# Altium schematic symbol library kmilo17pet-TI_MSP430.SchLib: 1463 symbols (part 123 of 130)
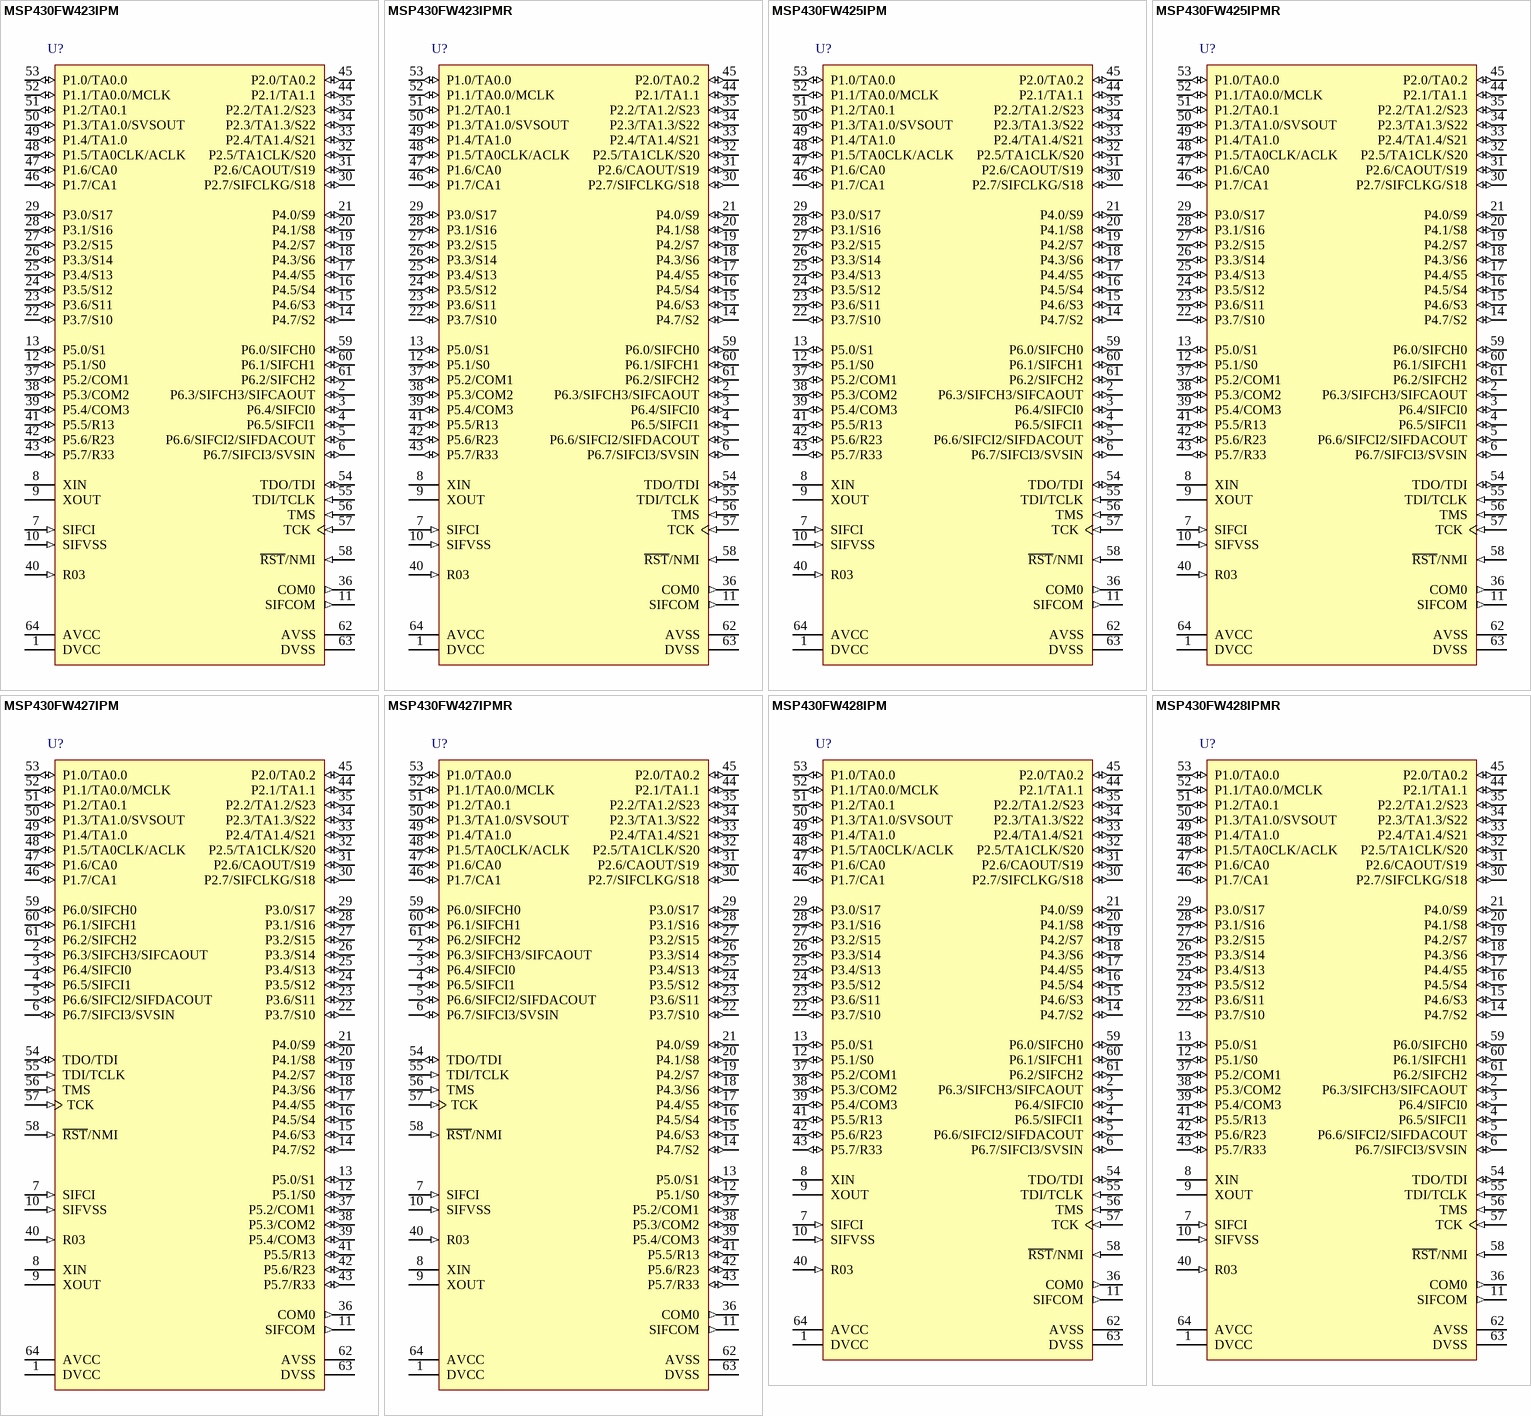
[diagram p297: symbols MSP430FW423IPM to MSP430FW428IPMR]

## MSP430FW427IPM
designator U?
8 MHz Mixed Signal Microcontroller with 32 KB Flash, 1024 B SRAM and 48 GPIOs, -40 to 85 degC, 64-pin QFP (PM), Green (RoHS & no Sb/Br); Manufacturer: Texas Instruments; PartNumber: MSP430FW427IPM; ADC: Slope; Brown Out Reset: Yes; Flash(KB): 32; Frequency(MHz): 8; GPIO: 48; LCD Segments: 96; SRAM(B): 1024; SubFamily: 4 Series with LCD; Timers - 16-bit: 2; DatasheetVersion: SLAS383D; PackageVersion: 4040152/C; PackageReference: PM64; PackageDescription: 64-Pin Plastic Quad Flat Pack, Body 10 x 10 mm, Pitch 0.5 mm; Supplier 1: Digi-Key; Supplier Part Number 1: 296-15858-2-ND; Supplier 2: Digi-Key; Supplier Part Number 2: 296-15858-1-ND; Supplier 3: Digi-Key; Supplier Part Number 3: 296-15858-6-ND; Supplier 4: Newark; Supplier Part Number 4: 87H2029; Supplier 5: Mouser; Supplier Part Number 5: 595-430FW425IPMR; Comparators: Yes; Eco-Plan: Green (RoHS & no Sb/Br); SVS: Yes; Watchdog: Yes; Mounting Technology: Surface Mount; Code_JEDEC: MS-026; ComponentLink1Description: Manufacturer URL; ComponentLink1URL: http://www.ti.com/; ComponentLink2Description: Datasheet; ComponentLink2URL: http://www.ti.com/general/docs/lit/getliterature.tsp?genericPartNumber=MSP430FW427&fileType=pdf; ComponentLink3Description: Package Specification; ComponentLink3URL: http://www.ti.com/lit/ml/mtqf008a/mtqf008a.pdf
footprint TI-PM64_N (QFP, 64-Leads, Body 10x10mm, Pitch 0.5mm, IPC Medium Density)
pins: 1 DVCC (power) "Digital supply voltage, positive terminal.", 2 P6.3/SIFCH3/SIFCAOUT (io), 3 P6.4/SIFCI0 (io), 4 P6.5/SIFCI1 (io), 5 P6.6/SIFCI2/SIFDACOUT (io), 6 P6.7/SIFCI3/SVSIN (io), 7 SIFCI (in) "Scan IF input to Comparator.", 8 XIN "Input port for crystal oscillator XT1. Standard or watch crystals can be connected.", 9 XOUT "Output terminal of crystal oscillator XT1", 10 SIFVSS (in) "Scan IF input to Comparator.", 11 SIFCOM (out) "Common termination for Scan IF sensors.", 12 P5.1/S0 (io), 13 P5.0/S1 (io), 14 P4.7/S2 (io), 15 P4.6/S3 (io), 16 P4.5/S4 (io), 17 P4.4/S5 (io), 18 P4.3/S6 (io), 19 P4.2/S7 (io), 20 P4.1/S8 (io), 21 P4.0/S9 (io), 22 P3.7/S10 (io), 23 P3.6/S11 (io), 24 P3.5/S12 (io), 25 P3.4/S13 (io), 26 P3.3/S14 (io), 27 P3.2/S15 (io), 28 P3.1/S16 (io), 29 P3.0/S17 (io), 30 P2.7/SIFCLKG/S18 (io), 31 P2.6/CAOUT/S19 (io), 32 P2.5/TA1CLK/S20 (io), 33 P2.4/TA1.4/S21 (io), 34 P2.3/TA1.3/S22 (io), 35 P2.2/TA1.2/S23 (io), 36 COM0 (out) "Common output, COM0-3 are used for LCD backplanes.", 37 P5.2/COM1 (io), 38 P5.3/COM2 (io), 39 P5.4/COM3 (io), 40 R03 (in) "Input port of fourth positive (lowest) analog LCD level (V5)", 41 P5.5/R13 (io), 42 P5.6/R23 (io), 43 P5.7/R33 (io), 44 P2.1/TA1.1 (io), 45 P2.0/TA0.2 (io), 46 P1.7/CA1 (io), 47 P1.6/CA0 (io), 48 P1.5/TA0CLK/ACLK (io), 49 P1.4/TA1.0 (io), 50 P1.3/TA1.0/SVSOUT (io), 51 P1.2/TA0.1 (io), 52 P1.1/TA0.0/MCLK (io), 53 P1.0/TA0.0 (io), 54 TDO/TDI (io), 55 TDI/TCLK (in), 56 TMS (in) "Test mode select. TMS is used as an input port for device programming and test.", 57 TCK (in) "Test clock. TCK is the clock input port for device programming and test.", 58 ~{RST}/NMI (in), 59 P6.0/SIFCH0 (io), 60 P6.1/SIFCH1 (io), 61 P6.2/SIFCH2 (io), 62 AVSS (power) "Analog supply voltage, negative terminal. Supplies SD16, SVS, brownout, oscillator, and LCD resistive divider circuitry.", 63 DVSS (power) "Digital supply voltage, negative terminal", 64 AVCC (power) "Analog supply voltage, positive terminal. Supplies SD16, SVS, brownout, oscillator, and LCD resistive divider circuitry; must not power up prior to DVCC."

## MSP430FW427IPMR
designator U?
8 MHz Mixed Signal Microcontroller with 32 KB Flash, 1024 B SRAM and 48 GPIOs, -40 to 85 degC, 64-pin QFP (PM), Green (RoHS & no Sb/Br); Manufacturer: Texas Instruments; PartNumber: MSP430FW427IPMR; ADC: Slope; Brown Out Reset: Yes; Flash(KB): 32; Frequency(MHz): 8; GPIO: 48; LCD Segments: 96; SRAM(B): 1024; SubFamily: 4 Series with LCD; Timers - 16-bit: 2; DatasheetVersion: SLAS383D; PackageVersion: 4040152/C; PackageReference: PM64; PackageDescription: 64-Pin Plastic Quad Flat Pack, Body 10 x 10 mm, Pitch 0.5 mm; Supplier 1: Digi-Key; Supplier Part Number 1: 296-32678-ND; Supplier 2: Farnell; Supplier Part Number 2: 1555282; Supplier 3: Mouser; Supplier Part Number 3: 595-430FW427IPM; Comparators: Yes; Eco-Plan: Green (RoHS & no Sb/Br); SVS: Yes; Watchdog: Yes; Mounting Technology: Surface Mount; Code_JEDEC: MS-026; ComponentLink1Description: Manufacturer URL; ComponentLink1URL: http://www.ti.com/; ComponentLink2Description: Datasheet; ComponentLink2URL: http://www.ti.com/general/docs/lit/getliterature.tsp?genericPartNumber=MSP430FW427&fileType=pdf; ComponentLink3Description: Package Specification; ComponentLink3URL: http://www.ti.com/lit/ml/mtqf008a/mtqf008a.pdf
footprint TI-PM64_N (QFP, 64-Leads, Body 10x10mm, Pitch 0.5mm, IPC Medium Density)
pins: 1 DVCC (power) "Digital supply voltage, positive terminal.", 2 P6.3/SIFCH3/SIFCAOUT (io), 3 P6.4/SIFCI0 (io), 4 P6.5/SIFCI1 (io), 5 P6.6/SIFCI2/SIFDACOUT (io), 6 P6.7/SIFCI3/SVSIN (io), 7 SIFCI (in) "Scan IF input to Comparator.", 8 XIN "Input port for crystal oscillator XT1. Standard or watch crystals can be connected.", 9 XOUT "Output terminal of crystal oscillator XT1", 10 SIFVSS (in) "Scan IF input to Comparator.", 11 SIFCOM (out) "Common termination for Scan IF sensors.", 12 P5.1/S0 (io), 13 P5.0/S1 (io), 14 P4.7/S2 (io), 15 P4.6/S3 (io), 16 P4.5/S4 (io), 17 P4.4/S5 (io), 18 P4.3/S6 (io), 19 P4.2/S7 (io), 20 P4.1/S8 (io), 21 P4.0/S9 (io), 22 P3.7/S10 (io), 23 P3.6/S11 (io), 24 P3.5/S12 (io), 25 P3.4/S13 (io), 26 P3.3/S14 (io), 27 P3.2/S15 (io), 28 P3.1/S16 (io), 29 P3.0/S17 (io), 30 P2.7/SIFCLKG/S18 (io), 31 P2.6/CAOUT/S19 (io), 32 P2.5/TA1CLK/S20 (io), 33 P2.4/TA1.4/S21 (io), 34 P2.3/TA1.3/S22 (io), 35 P2.2/TA1.2/S23 (io), 36 COM0 (out) "Common output, COM0-3 are used for LCD backplanes.", 37 P5.2/COM1 (io), 38 P5.3/COM2 (io), 39 P5.4/COM3 (io), 40 R03 (in) "Input port of fourth positive (lowest) analog LCD level (V5)", 41 P5.5/R13 (io), 42 P5.6/R23 (io), 43 P5.7/R33 (io), 44 P2.1/TA1.1 (io), 45 P2.0/TA0.2 (io), 46 P1.7/CA1 (io), 47 P1.6/CA0 (io), 48 P1.5/TA0CLK/ACLK (io), 49 P1.4/TA1.0 (io), 50 P1.3/TA1.0/SVSOUT (io), 51 P1.2/TA0.1 (io), 52 P1.1/TA0.0/MCLK (io), 53 P1.0/TA0.0 (io), 54 TDO/TDI (io), 55 TDI/TCLK (in), 56 TMS (in) "Test mode select. TMS is used as an input port for device programming and test.", 57 TCK (in) "Test clock. TCK is the clock input port for device programming and test.", 58 ~{RST}/NMI (in), 59 P6.0/SIFCH0 (io), 60 P6.1/SIFCH1 (io), 61 P6.2/SIFCH2 (io), 62 AVSS (power) "Analog supply voltage, negative terminal. Supplies SD16, SVS, brownout, oscillator, and LCD resistive divider circuitry.", 63 DVSS (power) "Digital supply voltage, negative terminal", 64 AVCC (power) "Analog supply voltage, positive terminal. Supplies SD16, SVS, brownout, oscillator, and LCD resistive divider circuitry; must not power up prior to DVCC."

## MSP430FW428IPM
designator U?
8 MHz Mixed Signal Microcontroller with 48 KB Flash, 2048 B SRAM and 48 GPIOs, -40 to 85 degC, 64-pin QFP (PM), Green (RoHS & no Sb/Br); Manufacturer: Texas Instruments; PartNumber: MSP430FW428IPM; ADC: Slope; Brown Out Reset: Yes; Flash(KB): 48; Frequency(MHz): 8; LCD Segments: 96; SRAM(B): 2048; SubFamily: 4 Series with LCD; Timers - 16-bit: 2; DatasheetVersion: SLAS383D; PackageVersion: 4040152/C; PackageReference: PM64; PackageDescription: 64-Pin Plastic Quad Flat Pack, Body 10 x 10 mm, Pitch 0.5 mm; Supplier 1: Digi-Key; Supplier Part Number 1: 296-15859-2-ND; Supplier 2: Digi-Key; Supplier Part Number 2: 296-15859-1-ND; Supplier 3: Digi-Key; Supplier Part Number 3: 296-15859-6-ND; Supplier 4: Newark; Supplier Part Number 4: 87H2031; Supplier 5: Mouser; Supplier Part Number 5: 595-430FW427IPMR; Comparators: Yes; Eco-Plan: Green (RoHS & no Sb/Br); GPIO: 48; SVS: Yes; Watchdog: Yes; Mounting Technology: Surface Mount; Code_JEDEC: MS-026; ComponentLink1Description: Manufacturer URL; ComponentLink1URL: http://www.ti.com/; ComponentLink2Description: Datasheet; ComponentLink2URL: http://www.ti.com/general/docs/lit/getliterature.tsp?genericPartNumber=MSP430FW428&fileType=pdf; ComponentLink3Description: Package Specification; ComponentLink3URL: http://www.ti.com/lit/ml/mtqf008a/mtqf008a.pdf
footprint TI-PM64_N (QFP, 64-Leads, Body 10x10mm, Pitch 0.5mm, IPC Medium Density)
pins: 1 DVCC (power) "Digital supply voltage, positive terminal.", 2 P6.3/SIFCH3/SIFCAOUT (io), 3 P6.4/SIFCI0 (io), 4 P6.5/SIFCI1 (io), 5 P6.6/SIFCI2/SIFDACOUT (io), 6 P6.7/SIFCI3/SVSIN (io), 7 SIFCI (in) "Scan IF input to Comparator.", 8 XIN "Input port for crystal oscillator XT1. Standard or watch crystals can be connected.", 9 XOUT "Output terminal of crystal oscillator XT1", 10 SIFVSS (in) "Scan IF input to Comparator.", 11 SIFCOM (out) "Common termination for Scan IF sensors.", 12 P5.1/S0 (io), 13 P5.0/S1 (io), 14 P4.7/S2 (io), 15 P4.6/S3 (io), 16 P4.5/S4 (io), 17 P4.4/S5 (io), 18 P4.3/S6 (io), 19 P4.2/S7 (io), 20 P4.1/S8 (io), 21 P4.0/S9 (io), 22 P3.7/S10 (io), 23 P3.6/S11 (io), 24 P3.5/S12 (io), 25 P3.4/S13 (io), 26 P3.3/S14 (io), 27 P3.2/S15 (io), 28 P3.1/S16 (io), 29 P3.0/S17 (io), 30 P2.7/SIFCLKG/S18 (io), 31 P2.6/CAOUT/S19 (io), 32 P2.5/TA1CLK/S20 (io), 33 P2.4/TA1.4/S21 (io), 34 P2.3/TA1.3/S22 (io), 35 P2.2/TA1.2/S23 (io), 36 COM0 (out) "Common output, COM0-3 are used for LCD backplanes.", 37 P5.2/COM1 (io), 38 P5.3/COM2 (io), 39 P5.4/COM3 (io), 40 R03 (in) "Input port of fourth positive (lowest) analog LCD level (V5)", 41 P5.5/R13 (io), 42 P5.6/R23 (io), 43 P5.7/R33 (io), 44 P2.1/TA1.1 (io), 45 P2.0/TA0.2 (io), 46 P1.7/CA1 (io), 47 P1.6/CA0 (io), 48 P1.5/TA0CLK/ACLK (io), 49 P1.4/TA1.0 (io), 50 P1.3/TA1.0/SVSOUT (io), 51 P1.2/TA0.1 (io), 52 P1.1/TA0.0/MCLK (io), 53 P1.0/TA0.0 (io), 54 TDO/TDI (io), 55 TDI/TCLK (in), 56 TMS (in) "Test mode select. TMS is used as an input port for device programming and test.", 57 TCK (in) "Test clock. TCK is the clock input port for device programming and test.", 58 ~{RST}/NMI (in), 59 P6.0/SIFCH0 (io), 60 P6.1/SIFCH1 (io), 61 P6.2/SIFCH2 (io), 62 AVSS (power) "Analog supply voltage, negative terminal. Supplies SD16, SVS, brownout, oscillator, and LCD resistive divider circuitry.", 63 DVSS (power) "Digital supply voltage, negative terminal", 64 AVCC (power) "Analog supply voltage, positive terminal. Supplies SD16, SVS, brownout, oscillator, and LCD resistive divider circuitry; must not power up prior to DVCC."

## MSP430FW428IPMR
designator U?
8 MHz Mixed Signal Microcontroller with 48 KB Flash, 2048 B SRAM and 48 GPIOs, -40 to 85 degC, 64-pin QFP (PM), Green (RoHS & no Sb/Br); Manufacturer: Texas Instruments; PartNumber: MSP430FW428IPMR; ADC: Slope; Brown Out Reset: Yes; Flash(KB): 48; Frequency(MHz): 8; LCD Segments: 96; SRAM(B): 2048; SubFamily: 4 Series with LCD; Timers - 16-bit: 2; DatasheetVersion: SLAS383D; PackageVersion: 4040152/C; PackageReference: PM64; PackageDescription: 64-Pin Plastic Quad Flat Pack, Body 10 x 10 mm, Pitch 0.5 mm; Supplier 1: Mouser; Supplier Part Number 1: N/A; Comparators: Yes; Eco-Plan: Green (RoHS & no Sb/Br); GPIO: 48; SVS: Yes; Watchdog: Yes; Mounting Technology: Surface Mount; Code_JEDEC: MS-026; ComponentLink1Description: Manufacturer URL; ComponentLink1URL: http://www.ti.com/; ComponentLink2Description: Datasheet; ComponentLink2URL: http://www.ti.com/general/docs/lit/getliterature.tsp?genericPartNumber=MSP430FW428&fileType=pdf; ComponentLink3Description: Package Specification; ComponentLink3URL: http://www.ti.com/lit/ml/mtqf008a/mtqf008a.pdf
footprint TI-PM64_N (QFP, 64-Leads, Body 10x10mm, Pitch 0.5mm, IPC Medium Density)
pins: 1 DVCC (power) "Digital supply voltage, positive terminal.", 2 P6.3/SIFCH3/SIFCAOUT (io), 3 P6.4/SIFCI0 (io), 4 P6.5/SIFCI1 (io), 5 P6.6/SIFCI2/SIFDACOUT (io), 6 P6.7/SIFCI3/SVSIN (io), 7 SIFCI (in) "Scan IF input to Comparator.", 8 XIN "Input port for crystal oscillator XT1. Standard or watch crystals can be connected.", 9 XOUT "Output terminal of crystal oscillator XT1", 10 SIFVSS (in) "Scan IF input to Comparator.", 11 SIFCOM (out) "Common termination for Scan IF sensors.", 12 P5.1/S0 (io), 13 P5.0/S1 (io), 14 P4.7/S2 (io), 15 P4.6/S3 (io), 16 P4.5/S4 (io), 17 P4.4/S5 (io), 18 P4.3/S6 (io), 19 P4.2/S7 (io), 20 P4.1/S8 (io), 21 P4.0/S9 (io), 22 P3.7/S10 (io), 23 P3.6/S11 (io), 24 P3.5/S12 (io), 25 P3.4/S13 (io), 26 P3.3/S14 (io), 27 P3.2/S15 (io), 28 P3.1/S16 (io), 29 P3.0/S17 (io), 30 P2.7/SIFCLKG/S18 (io), 31 P2.6/CAOUT/S19 (io), 32 P2.5/TA1CLK/S20 (io), 33 P2.4/TA1.4/S21 (io), 34 P2.3/TA1.3/S22 (io), 35 P2.2/TA1.2/S23 (io), 36 COM0 (out) "Common output, COM0-3 are used for LCD backplanes.", 37 P5.2/COM1 (io), 38 P5.3/COM2 (io), 39 P5.4/COM3 (io), 40 R03 (in) "Input port of fourth positive (lowest) analog LCD level (V5)", 41 P5.5/R13 (io), 42 P5.6/R23 (io), 43 P5.7/R33 (io), 44 P2.1/TA1.1 (io), 45 P2.0/TA0.2 (io), 46 P1.7/CA1 (io), 47 P1.6/CA0 (io), 48 P1.5/TA0CLK/ACLK (io), 49 P1.4/TA1.0 (io), 50 P1.3/TA1.0/SVSOUT (io), 51 P1.2/TA0.1 (io), 52 P1.1/TA0.0/MCLK (io), 53 P1.0/TA0.0 (io), 54 TDO/TDI (io), 55 TDI/TCLK (in), 56 TMS (in) "Test mode select. TMS is used as an input port for device programming and test.", 57 TCK (in) "Test clock. TCK is the clock input port for device programming and test.", 58 ~{RST}/NMI (in), 59 P6.0/SIFCH0 (io), 60 P6.1/SIFCH1 (io), 61 P6.2/SIFCH2 (io), 62 AVSS (power) "Analog supply voltage, negative terminal. Supplies SD16, SVS, brownout, oscillator, and LCD resistive divider circuitry.", 63 DVSS (power) "Digital supply voltage, negative terminal", 64 AVCC (power) "Analog supply voltage, positive terminal. Supplies SD16, SVS, brownout, oscillator, and LCD resistive divider circuitry; must not power up prior to DVCC."

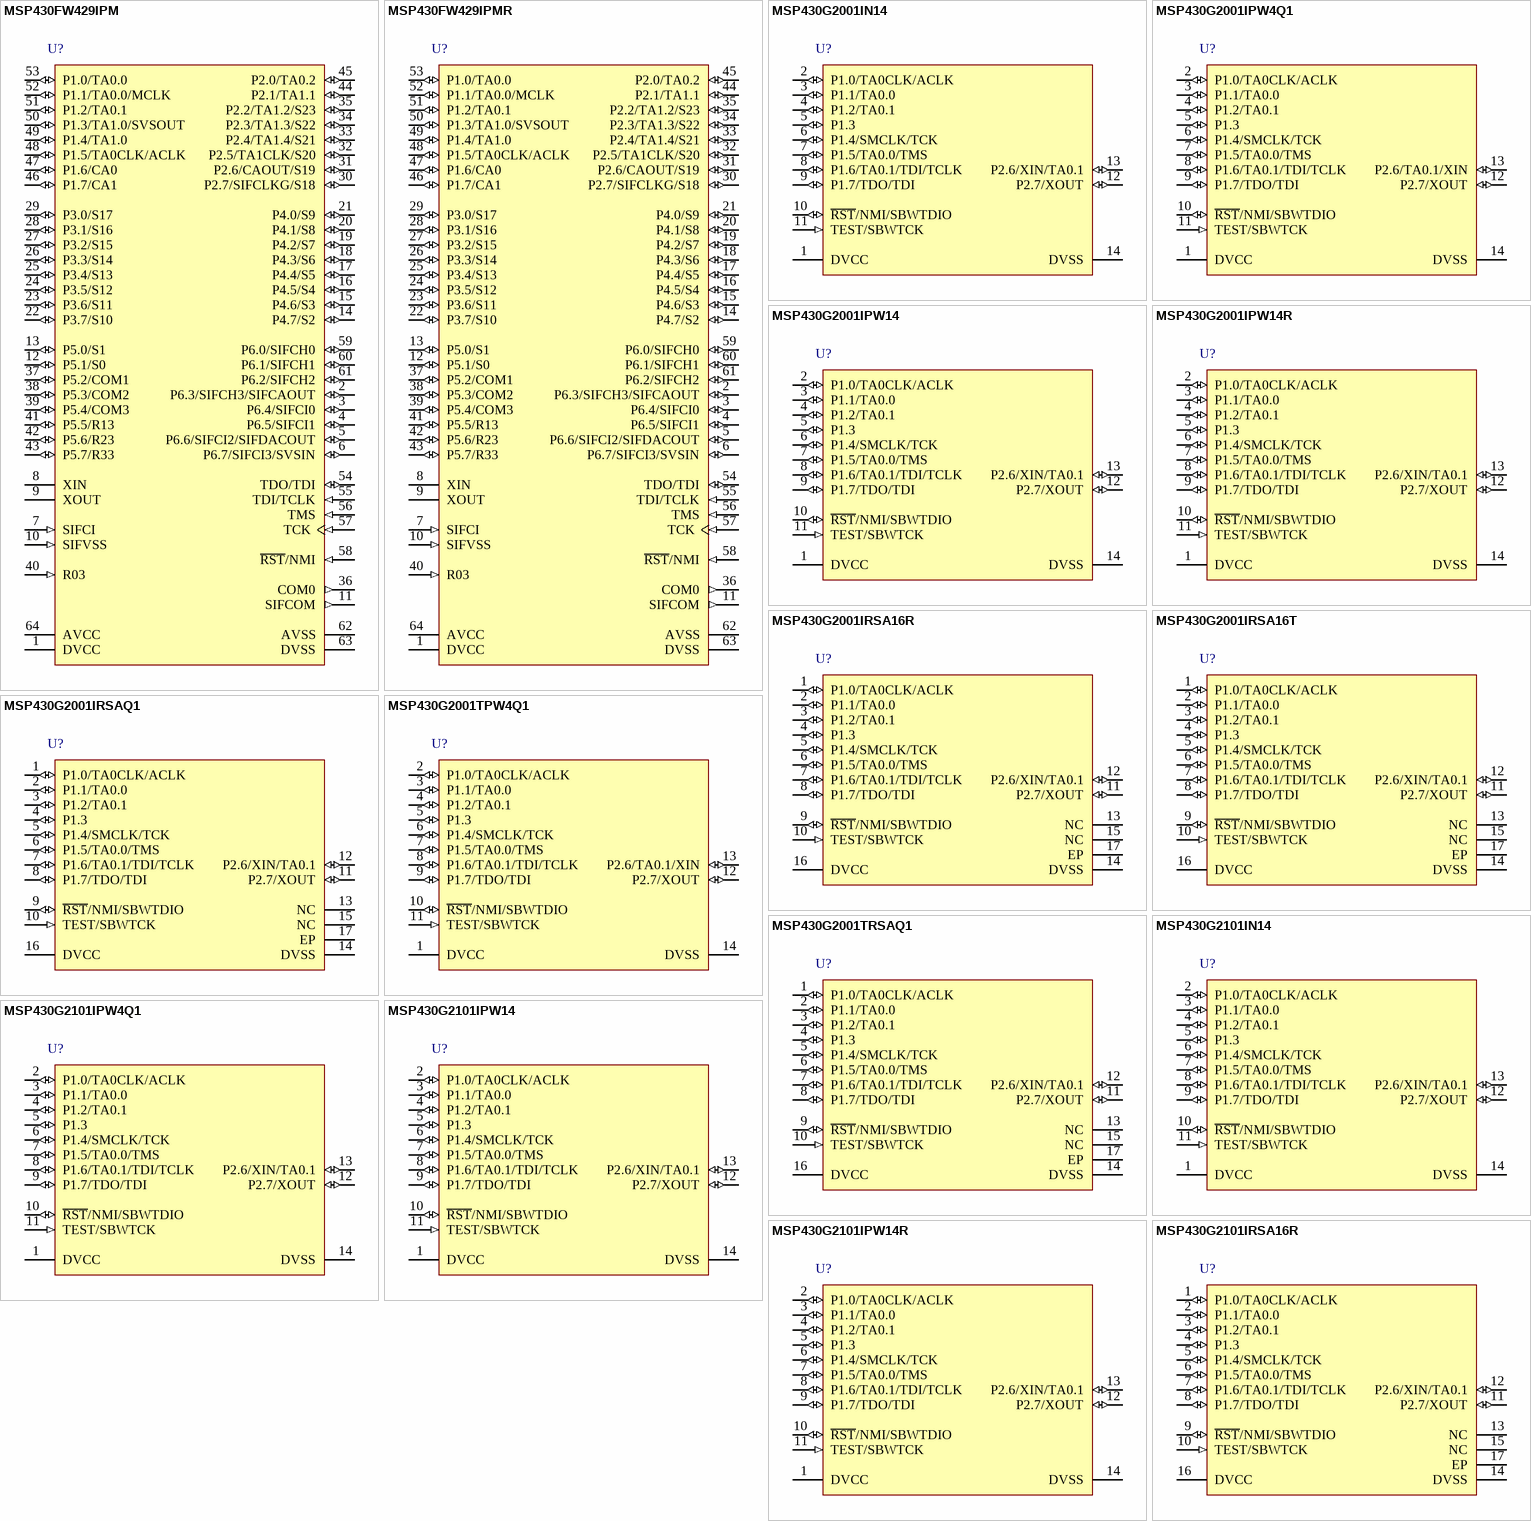
[diagram p211: symbols MSP430FW429IPM to MSP430G2101IRSA16R]

## MSP430FW429IPM
designator U?
8 MHz Mixed Signal Microcontroller with 60 KB Flash, 2048 B SRAM and 48 GPIOs, -40 to 85 degC, 64-pin QFP (PM), Green (RoHS & no Sb/Br); Manufacturer: Texas Instruments; PartNumber: MSP430FW429IPM; ADC: Slope; Brown Out Reset: Yes; Flash(KB): 60; Frequency(MHz): 8; GPIO: 48; LCD Segments: 96; SRAM(B): 2048; SubFamily: 4 Series with LCD; Timers - 16-bit: 2; DatasheetVersion: SLAS383D; PackageVersion: 4040152/C; PackageReference: PM64; PackageDescription: 64-Pin Plastic Quad Flat Pack, Body 10 x 10 mm, Pitch 0.5 mm; Supplier 1: Digi-Key; Supplier Part Number 1: 296-28308-2-ND; Supplier 2: Digi-Key; Supplier Part Number 2: 296-28308-1-ND; Supplier 3: Digi-Key; Supplier Part Number 3: 296-28308-6-ND; Supplier 4: Mouser; Supplier Part Number 4: 595-MSP430FW428IPMR; Comparators: Yes; Eco-Plan: Green (RoHS & no Sb/Br); SVS: Yes; Watchdog: Yes; Mounting Technology: Surface Mount; Code_JEDEC: MS-026; ComponentLink1Description: Manufacturer URL; ComponentLink1URL: http://www.ti.com/; ComponentLink2Description: Datasheet; ComponentLink2URL: http://www.ti.com/general/docs/lit/getliterature.tsp?genericPartNumber=MSP430FW429&fileType=pdf; ComponentLink3Description: Package Specification; ComponentLink3URL: http://www.ti.com/lit/ml/mtqf008a/mtqf008a.pdf
footprint TI-PM64_N (QFP, 64-Leads, Body 10x10mm, Pitch 0.5mm, IPC Medium Density)
pins: 1 DVCC (power) "Digital supply voltage, positive terminal.", 2 P6.3/SIFCH3/SIFCAOUT (io), 3 P6.4/SIFCI0 (io), 4 P6.5/SIFCI1 (io), 5 P6.6/SIFCI2/SIFDACOUT (io), 6 P6.7/SIFCI3/SVSIN (io), 7 SIFCI (in) "Scan IF input to Comparator.", 8 XIN "Input port for crystal oscillator XT1. Standard or watch crystals can be connected.", 9 XOUT "Output terminal of crystal oscillator XT1", 10 SIFVSS (in) "Scan IF input to Comparator.", 11 SIFCOM (out) "Common termination for Scan IF sensors.", 12 P5.1/S0 (io), 13 P5.0/S1 (io), 14 P4.7/S2 (io), 15 P4.6/S3 (io), 16 P4.5/S4 (io), 17 P4.4/S5 (io), 18 P4.3/S6 (io), 19 P4.2/S7 (io), 20 P4.1/S8 (io), 21 P4.0/S9 (io), 22 P3.7/S10 (io), 23 P3.6/S11 (io), 24 P3.5/S12 (io), 25 P3.4/S13 (io), 26 P3.3/S14 (io), 27 P3.2/S15 (io), 28 P3.1/S16 (io), 29 P3.0/S17 (io), 30 P2.7/SIFCLKG/S18 (io), 31 P2.6/CAOUT/S19 (io), 32 P2.5/TA1CLK/S20 (io), 33 P2.4/TA1.4/S21 (io), 34 P2.3/TA1.3/S22 (io), 35 P2.2/TA1.2/S23 (io), 36 COM0 (out) "Common output, COM0-3 are used for LCD backplanes.", 37 P5.2/COM1 (io), 38 P5.3/COM2 (io), 39 P5.4/COM3 (io), 40 R03 (in) "Input port of fourth positive (lowest) analog LCD level (V5)", 41 P5.5/R13 (io), 42 P5.6/R23 (io), 43 P5.7/R33 (io), 44 P2.1/TA1.1 (io), 45 P2.0/TA0.2 (io), 46 P1.7/CA1 (io), 47 P1.6/CA0 (io), 48 P1.5/TA0CLK/ACLK (io), 49 P1.4/TA1.0 (io), 50 P1.3/TA1.0/SVSOUT (io), 51 P1.2/TA0.1 (io), 52 P1.1/TA0.0/MCLK (io), 53 P1.0/TA0.0 (io), 54 TDO/TDI (io), 55 TDI/TCLK (in), 56 TMS (in) "Test mode select. TMS is used as an input port for device programming and test.", 57 TCK (in) "Test clock. TCK is the clock input port for device programming and test.", 58 ~{RST}/NMI (in), 59 P6.0/SIFCH0 (io), 60 P6.1/SIFCH1 (io), 61 P6.2/SIFCH2 (io), 62 AVSS (power) "Analog supply voltage, negative terminal. Supplies SD16, SVS, brownout, oscillator, and LCD resistive divider circuitry.", 63 DVSS (power) "Digital supply voltage, negative terminal", 64 AVCC (power) "Analog supply voltage, positive terminal. Supplies SD16, SVS, brownout, oscillator, and LCD resistive divider circuitry; must not power up prior to DVCC."

## MSP430FW429IPMR
designator U?
8 MHz Mixed Signal Microcontroller with 60 KB Flash, 2048 B SRAM and 48 GPIOs, -40 to 85 degC, 64-pin QFP (PM), Green (RoHS & no Sb/Br); Manufacturer: Texas Instruments; PartNumber: MSP430FW429IPMR; ADC: Slope; Brown Out Reset: Yes; Flash(KB): 60; Frequency(MHz): 8; GPIO: 48; LCD Segments: 96; SRAM(B): 2048; SubFamily: 4 Series with LCD; Timers - 16-bit: 2; DatasheetVersion: SLAS383D; PackageVersion: 4040152/C; PackageReference: PM64; PackageDescription: 64-Pin Plastic Quad Flat Pack, Body 10 x 10 mm, Pitch 0.5 mm; Supplier 1: Newark; Supplier Part Number 1: 53W0837; Supplier 2: Mouser; Supplier Part Number 2: 595-MSP430FW429IPM; Comparators: Yes; Eco-Plan: Green (RoHS & no Sb/Br); SVS: Yes; Watchdog: Yes; Mounting Technology: Surface Mount; Code_JEDEC: MS-026; ComponentLink1Description: Manufacturer URL; ComponentLink1URL: http://www.ti.com/; ComponentLink2Description: Datasheet; ComponentLink2URL: http://www.ti.com/general/docs/lit/getliterature.tsp?genericPartNumber=MSP430FW429&fileType=pdf; ComponentLink3Description: Package Specification; ComponentLink3URL: http://www.ti.com/lit/ml/mtqf008a/mtqf008a.pdf
footprint TI-PM64_N (QFP, 64-Leads, Body 10x10mm, Pitch 0.5mm, IPC Medium Density)
pins: 1 DVCC (power) "Digital supply voltage, positive terminal.", 2 P6.3/SIFCH3/SIFCAOUT (io), 3 P6.4/SIFCI0 (io), 4 P6.5/SIFCI1 (io), 5 P6.6/SIFCI2/SIFDACOUT (io), 6 P6.7/SIFCI3/SVSIN (io), 7 SIFCI (in) "Scan IF input to Comparator.", 8 XIN "Input port for crystal oscillator XT1. Standard or watch crystals can be connected.", 9 XOUT "Output terminal of crystal oscillator XT1", 10 SIFVSS (in) "Scan IF input to Comparator.", 11 SIFCOM (out) "Common termination for Scan IF sensors.", 12 P5.1/S0 (io), 13 P5.0/S1 (io), 14 P4.7/S2 (io), 15 P4.6/S3 (io), 16 P4.5/S4 (io), 17 P4.4/S5 (io), 18 P4.3/S6 (io), 19 P4.2/S7 (io), 20 P4.1/S8 (io), 21 P4.0/S9 (io), 22 P3.7/S10 (io), 23 P3.6/S11 (io), 24 P3.5/S12 (io), 25 P3.4/S13 (io), 26 P3.3/S14 (io), 27 P3.2/S15 (io), 28 P3.1/S16 (io), 29 P3.0/S17 (io), 30 P2.7/SIFCLKG/S18 (io), 31 P2.6/CAOUT/S19 (io), 32 P2.5/TA1CLK/S20 (io), 33 P2.4/TA1.4/S21 (io), 34 P2.3/TA1.3/S22 (io), 35 P2.2/TA1.2/S23 (io), 36 COM0 (out) "Common output, COM0-3 are used for LCD backplanes.", 37 P5.2/COM1 (io), 38 P5.3/COM2 (io), 39 P5.4/COM3 (io), 40 R03 (in) "Input port of fourth positive (lowest) analog LCD level (V5)", 41 P5.5/R13 (io), 42 P5.6/R23 (io), 43 P5.7/R33 (io), 44 P2.1/TA1.1 (io), 45 P2.0/TA0.2 (io), 46 P1.7/CA1 (io), 47 P1.6/CA0 (io), 48 P1.5/TA0CLK/ACLK (io), 49 P1.4/TA1.0 (io), 50 P1.3/TA1.0/SVSOUT (io), 51 P1.2/TA0.1 (io), 52 P1.1/TA0.0/MCLK (io), 53 P1.0/TA0.0 (io), 54 TDO/TDI (io), 55 TDI/TCLK (in), 56 TMS (in) "Test mode select. TMS is used as an input port for device programming and test.", 57 TCK (in) "Test clock. TCK is the clock input port for device programming and test.", 58 ~{RST}/NMI (in), 59 P6.0/SIFCH0 (io), 60 P6.1/SIFCH1 (io), 61 P6.2/SIFCH2 (io), 62 AVSS (power) "Analog supply voltage, negative terminal. Supplies SD16, SVS, brownout, oscillator, and LCD resistive divider circuitry.", 63 DVSS (power) "Digital supply voltage, negative terminal", 64 AVCC (power) "Analog supply voltage, positive terminal. Supplies SD16, SVS, brownout, oscillator, and LCD resistive divider circuitry; must not power up prior to DVCC."

## MSP430G2001IN14
designator U?
16 MHz Mixed Signal Microcontroller with 0.5 KB Flash, 128 B SRAM and 10 GPIOs, -40 to 85 degC, 14-pin PDIP (N), Pb-Free (RoHS); Manufacturer: Texas Instruments; PartNumber: MSP430G2001IN14; Brown Out Reset: Yes; Flash(KB): 0.5; Frequency(MHz): 16; GPIO: 10; SRAM(B): 128; SubFamily: Value Line; Timers - 16-bit: 1; DatasheetVersion: SLAS695G; PackageVersion: 4040049/E; PackageReference: N14; PackageDescription: 14-Pin Plastic In-Line, Body 19.305 x 6.35 mm, Pitch 2.54 mm; Supplier 1: Digi-Key; Supplier Part Number 1: 296-27481-5-ND; Supplier 2: Farnell; Supplier Part Number 2: 1866823; Supplier 3: Newark; Supplier Part Number 3: 47T2221; Supplier 4: Newark; Supplier Part Number 4: 72R5889; Supplier 5: Mouser; Supplier Part Number 5: 595-MSP430G2001IN14; Eco-Plan: Pb-Free (RoHS); Watchdog: Yes; Mounting Technology: Through Hole; Code_JEDEC: MS-001; ComponentLink1Description: Manufacturer URL; ComponentLink1URL: http://www.ti.com/; ComponentLink2Description: Datasheet; ComponentLink2URL: http://www.ti.com/lit/ds/symlink/msp430g2001.pdf; ComponentLink3Description: Package Specification; ComponentLink3URL: http://www.ti.com/litv/pdf/mplc004a
footprint TI-N14 (DIP, 14-Leads, Body 19.305x6.35 mm, Pitch 2.54 mm)
pins: 1 DVCC (power) "Supply voltage", 2 P1.0/TA0CLK/ACLK (io), 3 P1.1/TA0.0 (io), 4 P1.2/TA0.1 (io), 5 P1.3 (io) "General-purpose digital I/O pin", 6 P1.4/SMCLK/TCK (io), 7 P1.5/TA0.0/TMS (io), 8 P1.6/TA0.1/TDI/TCLK (io), 9 P1.7/TDO/TDI (io), 10 ~{RST}/NMI/SBWTDIO (io), 11 TEST/SBWTCK (in), 12 P2.7/XOUT (io), 13 P2.6/XIN/TA0.1 (io), 14 DVSS (power) "Ground reference"

## MSP430G2001IPW4Q1
designator U?
16 MHz Automotive Mixed Signal Microcontroller with 0.5 KB Flash, 128 B SRAM and 10 GPIOs, -40 to 85 degC, 14-pin TSSOP (PW), Green (RoHS & no Sb/Br); Manufacturer: Texas Instruments; PartNumber: MSP430G2001IPW4Q1; Brown Out Reset: Yes; Flash(KB): 0.5; Frequency(MHz): 16; GPIO: 10; SRAM(B): 128; SubFamily: Extended Temp; Timers - 16-bit: 1; USI: (I2C/SPI); DatasheetVersion: SLAS695G; PackageVersion: 4040064-3/G; PackageReference: PW14; PackageDescription: 14-Pin Plastic Small Outline, Body 5 x 4.4 mm, 0.65 mm Pitch; Supplier 1: Digi-Key; Supplier Part Number 1: MSP430G2001IPW4Q1-ND; Supplier 2: Mouser; Supplier Part Number 2: 595-SP430G2001IPW4Q1; Eco-Plan: Green (RoHS & no Sb/Br); Watchdog: Yes; Mounting Technology: Surface Mount; Code_JEDEC: MO-153; ComponentLink1Description: Manufacturer URL; ComponentLink1URL: http://www.ti.com/; ComponentLink2Description: Datasheet; ComponentLink2URL: http://www.ti.com/lit/ds/symlink/msp430g2001.pdf; ComponentLink3Description: Package Specification; ComponentLink3URL: http://www.ti.com/litv/pdf/mpds360
footprint TI-PW14_N (SOP, 14-Leads, Body 5x4.4mm, Pitch 0.65mm, IPC Medium Density)
pins: 1 DVCC (power) "Supply voltage", 2 P1.0/TA0CLK/ACLK (io), 3 P1.1/TA0.0 (io), 4 P1.2/TA0.1 (io), 5 P1.3 (io) "General-purpose digital I/O pin", 6 P1.4/SMCLK/TCK (io), 7 P1.5/TA0.0/TMS (io), 8 P1.6/TA0.1/TDI/TCLK (io), 9 P1.7/TDO/TDI (io), 10 ~{RST}/NMI/SBWTDIO (io), 11 TEST/SBWTCK (in), 12 P2.7/XOUT (io), 13 P2.6/TA0.1/XIN (io), 14 DVSS (power) "Ground reference"

## MSP430G2001IPW14
designator U?
16 MHz Mixed Signal Microcontroller with 0.5 KB Flash, 128 B SRAM and 10 GPIOs, 14-pin TSSOP (PW), Green (RoHS & no Sb/Br); Manufacturer: Texas Instruments; PartNumber: MSP430G2001IPW14; Brown Out Reset: Yes; Flash(KB): 0.5; Frequency(MHz): 16; GPIO: 10; SRAM(B): 128; SubFamily: Value Line; Timers - 16-bit: 1; DatasheetVersion: SLAS695G; PackageVersion: 4040064-3/G; PackageReference: PW14; PackageDescription: 14-Pin Plastic Small Outline, Body 5 x 4.4 mm, 0.65 mm Pitch; Supplier 1: Digi-Key; Supplier Part Number 1: 296-25828-5-ND; Supplier 2: Farnell; Supplier Part Number 2: 1812187; Supplier 3: Newark; Supplier Part Number 3: 25T5708; Supplier 4: Mouser; Supplier Part Number 4: 595-MSP430G2001IPW14; Eco-Plan: Green (RoHS & no Sb/Br); Watchdog: Yes; Mounting Technology: Surface Mount; Code_JEDEC: MO-153; ComponentLink1Description: Manufacturer URL; ComponentLink1URL: http://www.ti.com/; ComponentLink2Description: Datasheet; ComponentLink2URL: http://www.ti.com/lit/ds/symlink/msp430g2001.pdf; ComponentLink3Description: Package Specification; ComponentLink3URL: http://www.ti.com/litv/pdf/mpds360
footprint TI-PW14_N (SOP, 14-Leads, Body 5x4.4mm, Pitch 0.65mm, IPC Medium Density)
pins: 1 DVCC (power) "Supply voltage", 2 P1.0/TA0CLK/ACLK (io), 3 P1.1/TA0.0 (io), 4 P1.2/TA0.1 (io), 5 P1.3 (io) "General-purpose digital I/O pin", 6 P1.4/SMCLK/TCK (io), 7 P1.5/TA0.0/TMS (io), 8 P1.6/TA0.1/TDI/TCLK (io), 9 P1.7/TDO/TDI (io), 10 ~{RST}/NMI/SBWTDIO (io), 11 TEST/SBWTCK (in), 12 P2.7/XOUT (io), 13 P2.6/XIN/TA0.1 (io), 14 DVSS (power) "Ground reference"

## MSP430G2001IPW14R
designator U?
16 MHz Mixed Signal Microcontroller with 0.5 KB Flash, 128 B SRAM and 10 GPIOs, -40 to 85 degC, 14-pin TSSOP (PW), Green (RoHS & no Sb/Br); Manufacturer: Texas Instruments; PartNumber: MSP430G2001IPW14R; Brown Out Reset: Yes; Flash(KB): 0.5; Frequency(MHz): 16; GPIO: 10; SRAM(B): 128; SubFamily: Value Line; Timers - 16-bit: 1; DatasheetVersion: SLAS695G; PackageVersion: 4040064-3/G; PackageReference: PW14; PackageDescription: 14-Pin Plastic Small Outline, Body 5 x 4.4 mm, 0.65 mm Pitch; Supplier 1: Digi-Key; Supplier Part Number 1: 296-31695-2-ND; Supplier 2: Digi-Key; Supplier Part Number 2: 296-31695-1-ND; Supplier 3: Digi-Key; Supplier Part Number 3: 296-31695-6-ND; Supplier 4: Newark; Supplier Part Number 4: 74R6476; Supplier 5: Mouser; Supplier Part Number 5: 595-SP430G2001IPW14R; Eco-Plan: Green (RoHS & no Sb/Br); Watchdog: Yes; Mounting Technology: Surface Mount; Code_JEDEC: MO-153; ComponentLink1Description: Manufacturer URL; ComponentLink1URL: http://www.ti.com/; ComponentLink2Description: Datasheet; ComponentLink2URL: http://www.ti.com/lit/ds/symlink/msp430g2001.pdf; ComponentLink3Description: Package Specification; ComponentLink3URL: http://www.ti.com/litv/pdf/mpds360
footprint TI-PW14_N (SOP, 14-Leads, Body 5x4.4mm, Pitch 0.65mm, IPC Medium Density)
pins: 1 DVCC (power) "Supply voltage", 2 P1.0/TA0CLK/ACLK (io), 3 P1.1/TA0.0 (io), 4 P1.2/TA0.1 (io), 5 P1.3 (io) "General-purpose digital I/O pin", 6 P1.4/SMCLK/TCK (io), 7 P1.5/TA0.0/TMS (io), 8 P1.6/TA0.1/TDI/TCLK (io), 9 P1.7/TDO/TDI (io), 10 ~{RST}/NMI/SBWTDIO (io), 11 TEST/SBWTCK (in), 12 P2.7/XOUT (io), 13 P2.6/XIN/TA0.1 (io), 14 DVSS (power) "Ground reference"

## MSP430G2001IRSA16R
designator U?
16 MHz Mixed Signal Microcontroller with 0.5 KB Flash, 128 B SRAM and 10 GPIOs, 16-pin QFN (RSA), Green (RoHS & no Sb/Br); Manufacturer: Texas Instruments; PartNumber: MSP430G2001IRSA16R; Brown Out Reset: Yes; Flash(KB): 0.5; Frequency(MHz): 16; GPIO: 10; SRAM(B): 128; SubFamily: Value Line; Timers - 16-bit: 1; DatasheetVersion: SLAS695G; PackageVersion: revD, Jun-2011; PackageReference: RSA16-2700X2700TP; PackageDescription: 16-Pin Plastic Quad Flatpack No-Lead 0.65 mm Pitch; Supplier 1: Digi-Key; Supplier Part Number 1: 296-27681-2-ND; Supplier 2: Digi-Key; Supplier Part Number 2: 296-27681-1-ND; Supplier 3: Digi-Key; Supplier Part Number 3: 296-27681-6-ND; Supplier 4: Newark; Supplier Part Number 4: 74R6477; Supplier 5: Mouser; Supplier Part Number 5: 595-P430G2001IRSA16R; Eco-Plan: Green (RoHS & no Sb/Br); Watchdog: Yes; Mounting Technology: Surface Mount; Code_JEDEC: MO-220; ComponentLink1Description: Manufacturer URL; ComponentLink1URL: http://www.ti.com/; ComponentLink2Description: Datasheet; ComponentLink2URL: http://www.ti.com/lit/ds/symlink/msp430g2001.pdf; ComponentLink3Description: Package Specification; ComponentLink3URL: http://www.ti.com/litv/pdf/mpqf145c
footprint TI-RSA16-2700X2700TP (QFN, 16-Leads, Body 4x4mm, Pitch 0.65mm, Thermal Pad 2.7x2.7mm, TI Recommended)
pins: 1 P1.0/TA0CLK/ACLK (io), 2 P1.1/TA0.0 (io), 3 P1.2/TA0.1 (io), 4 P1.3 (io) "General-purpose digital I/O pin.", 5 P1.4/SMCLK/TCK (io), 6 P1.5/TA0.0/TMS (io), 7 P1.6/TA0.1/TDI/TCLK (io), 8 P1.7/TDO/TDI (io), 9 ~{RST}/NMI/SBWTDIO (io), 10 TEST/SBWTCK (in), 11 P2.7/XOUT (io), 12 P2.6/XIN/TA0.1 (io), 13 NC "Not connected", 14 DVSS (power) "Ground reference", 15 NC "Not connected", 16 DVCC (power) "Supply voltage", 17 EP (power) "QFN package pad connection to VSS recommended."

## MSP430G2001IRSA16T
designator U?
16 MHz Mixed Signal Microcontroller with 0.5 KB Flash, 128 B SRAM and 10 GPIOs, 16-pin QFN (RSA), Green (RoHS & no Sb/Br); Manufacturer: Texas Instruments; PartNumber: MSP430G2001IRSA16T; Brown Out Reset: Yes; Flash(KB): 0.5; Frequency(MHz): 16; GPIO: 10; SRAM(B): 128; SubFamily: Value Line; Timers - 16-bit: 1; DatasheetVersion: SLAS695G; PackageVersion: revD, Jun-2011; PackageReference: RSA16-2700X2700TP; PackageDescription: 16-Pin Plastic Quad Flatpack No-Lead 0.65 mm Pitch; Supplier 1: Digi-Key; Supplier Part Number 1: MSP430G2001IRSA16T-ND; Supplier 2: Farnell; Supplier Part Number 2: 1866824RL; Supplier 3: Farnell; Supplier Part Number 3: 1866824; Supplier 4: Newark; Supplier Part Number 4: 32T8138; Supplier 5: Newark; Supplier Part Number 5: 74R6478; Supplier 6: Mouser; Supplier Part Number 6: 595-P430G2001IRSA16T; Eco-Plan: Green (RoHS & no Sb/Br); Watchdog: Yes; Mounting Technology: Surface Mount; Code_JEDEC: MO-220; ComponentLink1Description: Manufacturer URL; ComponentLink1URL: http://www.ti.com/; ComponentLink2Description: Datasheet; ComponentLink2URL: http://www.ti.com/lit/ds/symlink/msp430g2001.pdf; ComponentLink3Description: Package Specification; ComponentLink3URL: http://www.ti.com/litv/pdf/mpqf145c
footprint TI-RSA16-2700X2700TP (QFN, 16-Leads, Body 4x4mm, Pitch 0.65mm, Thermal Pad 2.7x2.7mm, TI Recommended)
pins: 1 P1.0/TA0CLK/ACLK (io), 2 P1.1/TA0.0 (io), 3 P1.2/TA0.1 (io), 4 P1.3 (io) "General-purpose digital I/O pin.", 5 P1.4/SMCLK/TCK (io), 6 P1.5/TA0.0/TMS (io), 7 P1.6/TA0.1/TDI/TCLK (io), 8 P1.7/TDO/TDI (io), 9 ~{RST}/NMI/SBWTDIO (io), 10 TEST/SBWTCK (in), 11 P2.7/XOUT (io), 12 P2.6/XIN/TA0.1 (io), 13 NC "Not connected", 14 DVSS (power) "Ground reference", 15 NC "Not connected", 16 DVCC (power) "Supply voltage", 17 EP (power) "QFN package pad connection to VSS recommended."

## MSP430G2001IRSAQ1
designator U?
16 MHz Automotive Mixed Signal Microcontroller with 0.5 KB Flash, 128 B SRAM and 10 GPIOs, -40 to 85 degC, 16-pin QFN (RSA), Green (RoHS & no Sb/Br); Manufacturer: Texas Instruments; PartNumber: MSP430G2001IRSAQ1; Brown Out Reset: Yes; Flash(KB): 0.5; Frequency(MHz): 16; GPIO: 10; SRAM(B): 128; SubFamily: Extended Temp; Timers - 16-bit: 1; USI: (I2C/SPI); DatasheetVersion: SLAS695G; PackageVersion: revD, Jun-2011; PackageReference: RSA16-2700X2700TP; PackageDescription: 16-Pin Plastic Quad Flatpack No-Lead 0.65 mm Pitch; Supplier 1: Digi-Key; Supplier Part Number 1: MSP430G2001IRSAQ1-ND; Supplier 2: Mouser; Supplier Part Number 2: 595-SP430G2001IRSAQ1; Eco-Plan: Green (RoHS & no Sb/Br); Watchdog: Yes; Mounting Technology: Surface Mount; Code_JEDEC: MO-220; ComponentLink1Description: Manufacturer URL; ComponentLink1URL: http://www.ti.com/; ComponentLink2Description: Datasheet; ComponentLink2URL: http://www.ti.com/lit/ds/symlink/msp430g2001.pdf; ComponentLink3Description: Package Specification; ComponentLink3URL: http://www.ti.com/litv/pdf/mpqf145c
footprint TI-RSA16-2700X2700TP (QFN, 16-Leads, Body 4x4mm, Pitch 0.65mm, Thermal Pad 2.7x2.7mm, TI Recommended)
pins: 1 P1.0/TA0CLK/ACLK (io), 2 P1.1/TA0.0 (io), 3 P1.2/TA0.1 (io), 4 P1.3 (io) "General-purpose digital I/O pin.", 5 P1.4/SMCLK/TCK (io), 6 P1.5/TA0.0/TMS (io), 7 P1.6/TA0.1/TDI/TCLK (io), 8 P1.7/TDO/TDI (io), 9 ~{RST}/NMI/SBWTDIO (io), 10 TEST/SBWTCK (in), 11 P2.7/XOUT (io), 12 P2.6/XIN/TA0.1 (io), 13 NC "Not connected", 14 DVSS (power) "Ground reference", 15 NC "Not connected", 16 DVCC (power) "Supply voltage", 17 EP (power) "QFN package pad connection to VSS recommended."

## MSP430G2001TPW4Q1
designator U?
16 MHz Automotive Mixed Signal Microcontroller with 0.5 KB Flash, 128 B SRAM and 10 GPIOs, -40 to 105 degC, 14-pin TSSOP (PW); Manufacturer: Texas Instruments; PartNumber: MSP430G2001TPW4Q1; Brown Out Reset: Yes; Flash(KB): 0.5; Frequency(MHz): 16; GPIO: 10; SRAM(B): 128; SubFamily: Extended Temp; Timers - 16-bit: 1; USI: (I2C/SPI); DatasheetVersion: SLAS695G; PackageVersion: 4040064-3/G; PackageReference: PW14; PackageDescription: 14-Pin Plastic Small Outline, Body 5 x 4.4 mm, 0.65 mm Pitch; Supplier 1: Mouser; Supplier Part Number 1: N/A; Watchdog: Yes; Mounting Technology: Surface Mount; Code_JEDEC: MO-153; ComponentLink1Description: Manufacturer URL; ComponentLink1URL: http://www.ti.com/; ComponentLink2Description: Datasheet; ComponentLink2URL: http://www.ti.com/lit/ds/symlink/msp430g2001.pdf; ComponentLink3Description: Package Specification; ComponentLink3URL: http://www.ti.com/litv/pdf/mpds360
footprint TI-PW14_N (SOP, 14-Leads, Body 5x4.4mm, Pitch 0.65mm, IPC Medium Density)
pins: 1 DVCC (power) "Supply voltage", 2 P1.0/TA0CLK/ACLK (io), 3 P1.1/TA0.0 (io), 4 P1.2/TA0.1 (io), 5 P1.3 (io) "General-purpose digital I/O pin", 6 P1.4/SMCLK/TCK (io), 7 P1.5/TA0.0/TMS (io), 8 P1.6/TA0.1/TDI/TCLK (io), 9 P1.7/TDO/TDI (io), 10 ~{RST}/NMI/SBWTDIO (io), 11 TEST/SBWTCK (in), 12 P2.7/XOUT (io), 13 P2.6/TA0.1/XIN (io), 14 DVSS (power) "Ground reference"

## MSP430G2001TRSAQ1
designator U?
16 MHz Automotive Mixed Signal Microcontroller with 0.5 KB Flash, 128 B SRAM and 10 GPIOs, -40 to 105 degC, 16-pin QFN (RSA); Manufacturer: Texas Instruments; PartNumber: MSP430G2001TRSAQ1; Brown Out Reset: Yes; Flash(KB): 0.5; Frequency(MHz): 16; GPIO: 10; SRAM(B): 128; SubFamily: Extended Temp; Timers - 16-bit: 1; USI: (I2C/SPI); DatasheetVersion: SLAS695G; PackageVersion: revD, Jun-2011; PackageReference: RSA16-2700X2700TP; PackageDescription: 16-Pin Plastic Quad Flatpack No-Lead 0.65 mm Pitch; Supplier 1: Mouser; Supplier Part Number 1: N/A; Watchdog: Yes; Mounting Technology: Surface Mount; Code_JEDEC: MO-220; ComponentLink1Description: Manufacturer URL; ComponentLink1URL: http://www.ti.com/; ComponentLink2Description: Datasheet; ComponentLink2URL: http://www.ti.com/lit/ds/symlink/msp430g2001.pdf; ComponentLink3Description: Package Specification; ComponentLink3URL: http://www.ti.com/litv/pdf/mpqf145c
footprint TI-RSA16-2700X2700TP (QFN, 16-Leads, Body 4x4mm, Pitch 0.65mm, Thermal Pad 2.7x2.7mm, TI Recommended)
pins: 1 P1.0/TA0CLK/ACLK (io), 2 P1.1/TA0.0 (io), 3 P1.2/TA0.1 (io), 4 P1.3 (io) "General-purpose digital I/O pin.", 5 P1.4/SMCLK/TCK (io), 6 P1.5/TA0.0/TMS (io), 7 P1.6/TA0.1/TDI/TCLK (io), 8 P1.7/TDO/TDI (io), 9 ~{RST}/NMI/SBWTDIO (io), 10 TEST/SBWTCK (in), 11 P2.7/XOUT (io), 12 P2.6/XIN/TA0.1 (io), 13 NC "Not connected", 14 DVSS (power) "Ground reference", 15 NC "Not connected", 16 DVCC (power) "Supply voltage", 17 EP (power) "QFN package pad connection to VSS recommended."

## MSP430G2101IN14
designator U?
16 MHz Mixed Signal Microcontroller with 1 KB Flash, 128 B SRAM and 10 GPIOs, -40 to 85 degC, 14-pin PDIP (N), Pb-Free (RoHS); Manufacturer: Texas Instruments; PartNumber: MSP430G2101IN14; Brown Out Reset: Yes; Flash(KB): 1; Frequency(MHz): 16; GPIO: 10; SRAM(B): 128; SubFamily: Value Line; DatasheetVersion: SLAS695G; PackageVersion: 4040049/E; PackageReference: N14; PackageDescription: 14-Pin Plastic In-Line, Body 19.305 x 6.35 mm, Pitch 2.54 mm; Supplier 1: Digi-Key; Supplier Part Number 1: 296-27482-5-ND; Supplier 2: Farnell; Supplier Part Number 2: 1866826; Supplier 3: Newark; Supplier Part Number 3: 47T2222; Supplier 4: Newark; Supplier Part Number 4: 72R5891; Supplier 5: Mouser; Supplier Part Number 5: 595-MSP430G2101IN14; Eco-Plan: Pb-Free (RoHS); Timers - 16-bit: 1; Watchdog: Yes; Mounting Technology: Through Hole; Code_JEDEC: MS-001; ComponentLink1Description: Manufacturer URL; ComponentLink1URL: http://www.ti.com/; ComponentLink2Description: Datasheet; ComponentLink2URL: http://www.ti.com/lit/ds/symlink/msp430g2001.pdf; ComponentLink3Description: Package Specification; ComponentLink3URL: http://www.ti.com/litv/pdf/mplc004a
footprint TI-N14 (DIP, 14-Leads, Body 19.305x6.35 mm, Pitch 2.54 mm)
pins: 1 DVCC (power) "Supply voltage", 2 P1.0/TA0CLK/ACLK (io), 3 P1.1/TA0.0 (io), 4 P1.2/TA0.1 (io), 5 P1.3 (io) "General-purpose digital I/O pin", 6 P1.4/SMCLK/TCK (io), 7 P1.5/TA0.0/TMS (io), 8 P1.6/TA0.1/TDI/TCLK (io), 9 P1.7/TDO/TDI (io), 10 ~{RST}/NMI/SBWTDIO (io), 11 TEST/SBWTCK (in), 12 P2.7/XOUT (io), 13 P2.6/XIN/TA0.1 (io), 14 DVSS (power) "Ground reference"

## MSP430G2101IPW4Q1
designator U?
16 MHz Automotive Mixed Signal Microcontroller with 1 KB Flash, 128 B SRAM and 10 GPIOs, -40 to 85 degC, 14-pin TSSOP (PW), Green (RoHS & no Sb/Br); Manufacturer: Texas Instruments; PartNumber: MSP430G2101IPW4Q1; Brown Out Reset: Yes; Flash(KB): 1; Frequency(MHz): 16; GPIO: 10; SRAM(B): 128; USI: (I2C/SPI); DatasheetVersion: SLAS695G; PackageVersion: 4040064-3/G; PackageReference: PW14; PackageDescription: 14-Pin Plastic Small Outline, Body 5 x 4.4 mm, 0.65 mm Pitch; Supplier 1: Digi-Key; Supplier Part Number 1: MSP430G2101IPW4Q1-ND; Supplier 2: Mouser; Supplier Part Number 2: 595-SP430G2101IPW4Q1; Eco-Plan: Green (RoHS & no Sb/Br); SubFamily: Automotive; Timers - 16-bit: 1; Watchdog: Yes; Mounting Technology: Surface Mount; Code_JEDEC: MO-153; ComponentLink1Description: Manufacturer URL; ComponentLink1URL: http://www.ti.com/; ComponentLink2Description: Datasheet; ComponentLink2URL: http://www.ti.com/lit/ds/symlink/msp430g2001.pdf; ComponentLink3Description: Package Specification; ComponentLink3URL: http://www.ti.com/litv/pdf/mpds360
footprint TI-PW14_N (SOP, 14-Leads, Body 5x4.4mm, Pitch 0.65mm, IPC Medium Density)
pins: 1 DVCC (power) "Supply voltage", 2 P1.0/TA0CLK/ACLK (io) "General-purpose digital I/O pin Timer0_A, clock signal TACLK input ACLK signal output Comparator_A+, CA0 input", 3 P1.1/TA0.0 (io) "General-purpose digital I/O pin Timer0_A, capture: CCI0A input, compare: Out0 output Comparator_A+, CA1 input", 4 P1.2/TA0.1 (io) "General-purpose digital I/O pin Timer0_A, capture: CCI1A input, compare: Out1 output Comparator_A+, CA2 inp", 5 P1.3 (io) "General-purpose digital I/O pin Comparator_A+, CA3 input Comparator_A+, output", 6 P1.4/SMCLK/TCK (io) "General-purpose digital I/O pin SMCLK signal output Comparator_A+, CA4 input JTAG test clock, input terminal for device programming and test", 7 P1.5/TA0.0/TMS (io) "General-purpose digital I/O pin Timer0_A, compare: Out0 output Comparator_A+, CA5 input JTAG test mode select, input terminal for device programming and test", 8 P1.6/TA0.1/TDI/TCLK (io) "General-purpose digital I/O pin Timer0_A, compare: Out1 output Comparator_A+, CA6 input JTAG test data input or test clock input during programming and test", 9 P1.7/TDO/TDI (io) "General-purpose digital I/O pin CA7 input Comparator_A+, output JTAG test data output terminal or test data input during programming and test", 10 ~{RST}/NMI/SBWTDIO (io) "Reset Nonmaskable interrupt input Spy-Bi-Wire test data input/output during programming and test", 11 TEST/SBWTCK (in) "Selects test mode for JTAG pins on Port 1. The device protection fuse is connected to TEST. Spy-Bi-Wire test clock input during programming and test", 12 P2.7/XOUT (io) "Output terminal of crystal oscillator General-purpose digital I/O pin", 13 P2.6/XIN/TA0.1 (io) "Input terminal of crystal oscillator General-purpose digital I/O pin Timer0_A, compare: Out1 output", 14 DVSS (power) "Ground reference"

## MSP430G2101IPW14
designator U?
16 MHz Mixed Signal Microcontroller with 1 KB Flash, 128 B SRAM and 10 GPIOs, -40 to 85 degC, 14-pin TSSOP (PW), Green (RoHS & no Sb/Br); Manufacturer: Texas Instruments; PartNumber: MSP430G2101IPW14; Brown Out Reset: Yes; Flash(KB): 1; Frequency(MHz): 16; GPIO: 10; SRAM(B): 128; SubFamily: Value Line; DatasheetVersion: SLAS695G; PackageVersion: 4040064-3/G; PackageReference: PW14; PackageDescription: 14-Pin Plastic Small Outline, Body 5 x 4.4 mm, 0.65 mm Pitch; Supplier 1: Digi-Key; Supplier Part Number 1: 296-33443-5-ND; Supplier 2: Farnell; Supplier Part Number 2: 1866827; Supplier 3: Newark; Supplier Part Number 3: 47T2223; Supplier 4: Newark; Supplier Part Number 4: 72R5892; Supplier 5: Mouser; Supplier Part Number 5: 595-MSP430G2101IPW14; Eco-Plan: Green (RoHS & no Sb/Br); Timers - 16-bit: 1; Watchdog: Yes; Mounting Technology: Surface Mount; Code_JEDEC: MO-153; ComponentLink1Description: Manufacturer URL; ComponentLink1URL: http://www.ti.com/; ComponentLink2Description: Datasheet; ComponentLink2URL: http://www.ti.com/lit/ds/symlink/msp430g2001.pdf; ComponentLink3Description: Package Specification; ComponentLink3URL: http://www.ti.com/litv/pdf/mpds360
footprint TI-PW14_N (SOP, 14-Leads, Body 5x4.4mm, Pitch 0.65mm, IPC Medium Density)
pins: 1 DVCC (power) "Supply voltage", 2 P1.0/TA0CLK/ACLK (io), 3 P1.1/TA0.0 (io), 4 P1.2/TA0.1 (io), 5 P1.3 (io) "General-purpose digital I/O pin", 6 P1.4/SMCLK/TCK (io), 7 P1.5/TA0.0/TMS (io), 8 P1.6/TA0.1/TDI/TCLK (io), 9 P1.7/TDO/TDI (io), 10 ~{RST}/NMI/SBWTDIO (io), 11 TEST/SBWTCK (in), 12 P2.7/XOUT (io), 13 P2.6/XIN/TA0.1 (io), 14 DVSS (power) "Ground reference"

## MSP430G2101IPW14R
designator U?
16 MHz Mixed Signal Microcontroller with 1 KB Flash, 128 B SRAM and 10 GPIOs, 14-pin TSSOP (PW), Green (RoHS & no Sb/Br); Manufacturer: Texas Instruments; PartNumber: MSP430G2101IPW14R; Brown Out Reset: Yes; Flash(KB): 1; Frequency(MHz): 16; GPIO: 10; SRAM(B): 128; SubFamily: Value Line; DatasheetVersion: SLAS695G; PackageVersion: 4040064-3/G; PackageReference: PW14; PackageDescription: 14-Pin Plastic Small Outline, Body 5 x 4.4 mm, 0.65 mm Pitch; Supplier 1: Digi-Key; Supplier Part Number 1: 296-27469-2-ND; Supplier 2: Digi-Key; Supplier Part Number 2: 296-27469-1-ND; Supplier 3: Digi-Key; Supplier Part Number 3: 296-27469-6-ND; Supplier 4: Newark; Supplier Part Number 4: 74R6479; Supplier 5: Mouser; Supplier Part Number 5: 595-SP430G2101IPW14R; Eco-Plan: Green (RoHS & no Sb/Br); Timers - 16-bit: 1; Watchdog: Yes; Mounting Technology: Surface Mount; Code_JEDEC: MO-153; ComponentLink1Description: Manufacturer URL; ComponentLink1URL: http://www.ti.com/; ComponentLink2Description: Datasheet; ComponentLink2URL: http://www.ti.com/lit/ds/symlink/msp430g2001.pdf; ComponentLink3Description: Package Specification; ComponentLink3URL: http://www.ti.com/litv/pdf/mpds360
footprint TI-PW14_N (SOP, 14-Leads, Body 5x4.4mm, Pitch 0.65mm, IPC Medium Density)
pins: 1 DVCC (power) "Supply voltage", 2 P1.0/TA0CLK/ACLK (io), 3 P1.1/TA0.0 (io), 4 P1.2/TA0.1 (io), 5 P1.3 (io) "General-purpose digital I/O pin", 6 P1.4/SMCLK/TCK (io), 7 P1.5/TA0.0/TMS (io), 8 P1.6/TA0.1/TDI/TCLK (io), 9 P1.7/TDO/TDI (io), 10 ~{RST}/NMI/SBWTDIO (io), 11 TEST/SBWTCK (in), 12 P2.7/XOUT (io), 13 P2.6/XIN/TA0.1 (io), 14 DVSS (power) "Ground reference"

## MSP430G2101IRSA16R
designator U?
16 MHz Mixed Signal Microcontroller with 1 KB Flash, 128 B SRAM and 10 GPIOs, 16-pin QFN (RSA), Green (RoHS & no Sb/Br); Manufacturer: Texas Instruments; PartNumber: MSP430G2101IRSA16R; Brown Out Reset: Yes; Flash(KB): 1; Frequency(MHz): 16; GPIO: 10; SRAM(B): 128; SubFamily: Value Line; USI: (I2C/SPI); DatasheetVersion: SLAS695G; PackageVersion: revD, Jun-2011; PackageReference: RSA16-2700X2700TP; PackageDescription: 16-Pin Plastic Quad Flatpack No-Lead 0.65 mm Pitch; Supplier 1: Digi-Key; Supplier Part Number 1: 296-27682-2-ND; Supplier 2: Digi-Key; Supplier Part Number 2: 296-27682-1-ND; Supplier 3: Digi-Key; Supplier Part Number 3: 296-27682-6-ND; Supplier 4: Newark; Supplier Part Number 4: 74R6480; Supplier 5: Mouser; Supplier Part Number 5: 595-P430G2101IRSA16R; Eco-Plan: Green (RoHS & no Sb/Br); Timers - 16-bit: 1; Watchdog: Yes; Mounting Technology: Surface Mount; Code_JEDEC: MO-220; ComponentLink1Description: Manufacturer URL; ComponentLink1URL: http://www.ti.com/; ComponentLink2Description: Datasheet; ComponentLink2URL: http://www.ti.com/lit/ds/symlink/msp430g2001.pdf; ComponentLink3Description: Package Specification; ComponentLink3URL: http://www.ti.com/litv/pdf/mpqf145c
footprint TI-RSA16-2700X2700TP (QFN, 16-Leads, Body 4x4mm, Pitch 0.65mm, Thermal Pad 2.7x2.7mm, TI Recommended)
pins: 1 P1.0/TA0CLK/ACLK (io), 2 P1.1/TA0.0 (io), 3 P1.2/TA0.1 (io), 4 P1.3 (io) "General-purpose digital I/O pin", 5 P1.4/SMCLK/TCK (io), 6 P1.5/TA0.0/TMS (io), 7 P1.6/TA0.1/TDI/TCLK (io), 8 P1.7/TDO/TDI (io), 9 ~{RST}/NMI/SBWTDIO (io), 10 TEST/SBWTCK (in), 11 P2.7/XOUT (io), 12 P2.6/XIN/TA0.1 (io), 13 NC "Not connected", 14 DVSS (power) "Ground reference", 15 NC "Not connected", 16 DVCC (power) "Supply voltage", 17 EP (power) "QFN package pad connection to VSS recommended."

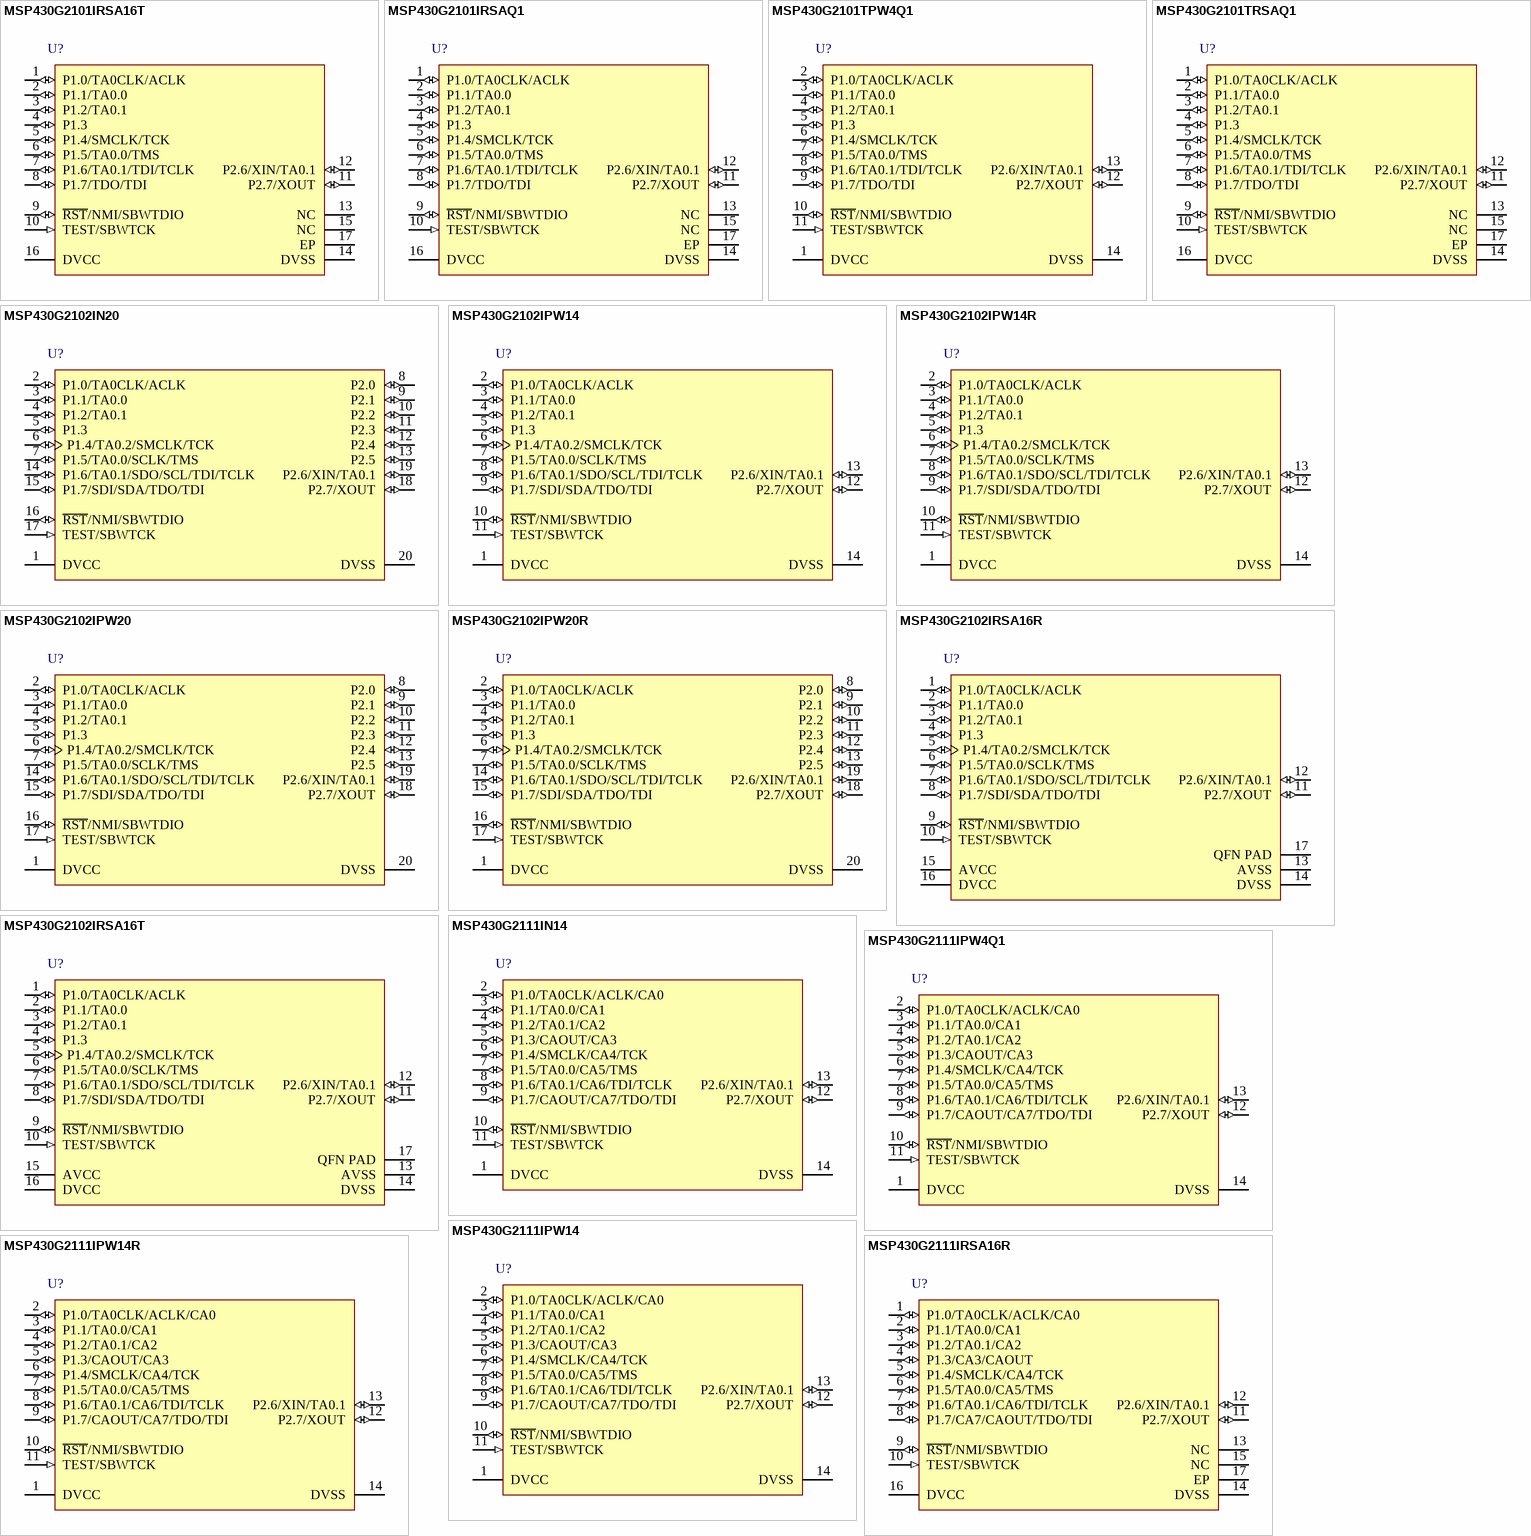
[diagram p212: symbols MSP430G2101IRSA16T to MSP430G2111IRSA16R]

## MSP430G2101IRSA16T
designator U?
16 MHz Mixed Signal Microcontroller with 1 KB Flash, 128 B SRAM and 10 GPIOs, 16-pin QFN (RSA), Green (RoHS & no Sb/Br); Manufacturer: Texas Instruments; PartNumber: MSP430G2101IRSA16T; Brown Out Reset: Yes; Flash(KB): 1; Frequency(MHz): 16; GPIO: 10; SRAM(B): 128; SubFamily: Value Line; DatasheetVersion: SLAS695G; PackageVersion: revD, Jun-2011; PackageReference: RSA16-2700X2700TP; PackageDescription: 16-Pin Plastic Quad Flatpack No-Lead 0.65 mm Pitch; Supplier 1: Digi-Key; Supplier Part Number 1: MSP430G2101IRSA16T-ND; Supplier 2: Farnell; Supplier Part Number 2: 1866828; Supplier 3: Newark; Supplier Part Number 3: 47T2224; Supplier 4: Newark; Supplier Part Number 4: 74R6481; Supplier 5: Mouser; Supplier Part Number 5: 595-P430G2101IRSA16T; Eco-Plan: Green (RoHS & no Sb/Br); Timers - 16-bit: 1; Watchdog: Yes; Mounting Technology: Surface Mount; Code_JEDEC: MO-220; ComponentLink1Description: Manufacturer URL; ComponentLink1URL: http://www.ti.com/; ComponentLink2Description: Datasheet; ComponentLink2URL: http://www.ti.com/lit/ds/symlink/msp430g2001.pdf; ComponentLink3Description: Package Specification; ComponentLink3URL: http://www.ti.com/litv/pdf/mpqf145c
footprint TI-RSA16-2700X2700TP (QFN, 16-Leads, Body 4x4mm, Pitch 0.65mm, Thermal Pad 2.7x2.7mm, TI Recommended)
pins: 1 P1.0/TA0CLK/ACLK (io), 2 P1.1/TA0.0 (io), 3 P1.2/TA0.1 (io), 4 P1.3 (io) "General-purpose digital I/O pin", 5 P1.4/SMCLK/TCK (io), 6 P1.5/TA0.0/TMS (io), 7 P1.6/TA0.1/TDI/TCLK (io), 8 P1.7/TDO/TDI (io), 9 ~{RST}/NMI/SBWTDIO (io), 10 TEST/SBWTCK (in), 11 P2.7/XOUT (io), 12 P2.6/XIN/TA0.1 (io), 13 NC "Not connected", 14 DVSS (power) "Ground reference", 15 NC "Not connected", 16 DVCC (power) "Supply voltage", 17 EP (power) "QFN package pad connection to VSS recommended."

## MSP430G2101IRSAQ1
designator U?
16 MHz Automotive Mixed Signal Microcontroller with 1 KB Flash, 128 B SRAM and 10 GPIOs, -40 to 85 degC, 16-pin QFN (RSA); Manufacturer: Texas Instruments; PartNumber: MSP430G2101IRSAQ1; Brown Out Reset: Yes; Eco-Plan: TBD; Flash(KB): 1; Frequency(MHz): 16; GPIO: 10; SRAM(B): 128; USI: (I2C/SPI); DatasheetVersion: SLAS695G; PackageVersion: revD, Jun-2011; PackageReference: RSA16-2700X2700TP; PackageDescription: 16-Pin Plastic Quad Flatpack No-Lead 0.65 mm Pitch; Supplier 1: Digi-Key; Supplier Part Number 1: MSP430G2101IRSAQ1-ND; Supplier 2: Mouser; Supplier Part Number 2: 595-SP430G2101IRSAQ1; SubFamily: Automotive; Timers - 16-bit: 1; Watchdog: Yes; Mounting Technology: Surface Mount; Code_JEDEC: MO-220; ComponentLink1Description: Manufacturer URL; ComponentLink1URL: http://www.ti.com/; ComponentLink2Description: Datasheet; ComponentLink2URL: http://www.ti.com/lit/ds/symlink/msp430g2001.pdf; ComponentLink3Description: Package Specification; ComponentLink3URL: http://www.ti.com/litv/pdf/mpqf145c
footprint TI-RSA16-2700X2700TP (QFN, 16-Leads, Body 4x4mm, Pitch 0.65mm, Thermal Pad 2.7x2.7mm, TI Recommended)
pins: 1 P1.0/TA0CLK/ACLK (io), 2 P1.1/TA0.0 (io), 3 P1.2/TA0.1 (io), 4 P1.3 (io) "General-purpose digital I/O pin", 5 P1.4/SMCLK/TCK (io), 6 P1.5/TA0.0/TMS (io), 7 P1.6/TA0.1/TDI/TCLK (io), 8 P1.7/TDO/TDI (io), 9 ~{RST}/NMI/SBWTDIO (io), 10 TEST/SBWTCK (in), 11 P2.7/XOUT (io), 12 P2.6/XIN/TA0.1 (io), 13 NC "Not connected", 14 DVSS (power) "Ground reference", 15 NC "Not connected", 16 DVCC (power) "Supply voltage", 17 EP (power) "QFN package pad connection to VSS recommended."